# Altium schematic symbol library SpectrumAnalyer.SchLib: 17 symbols
Pins are listed as number, name and electrical type; pins without a type are passive.

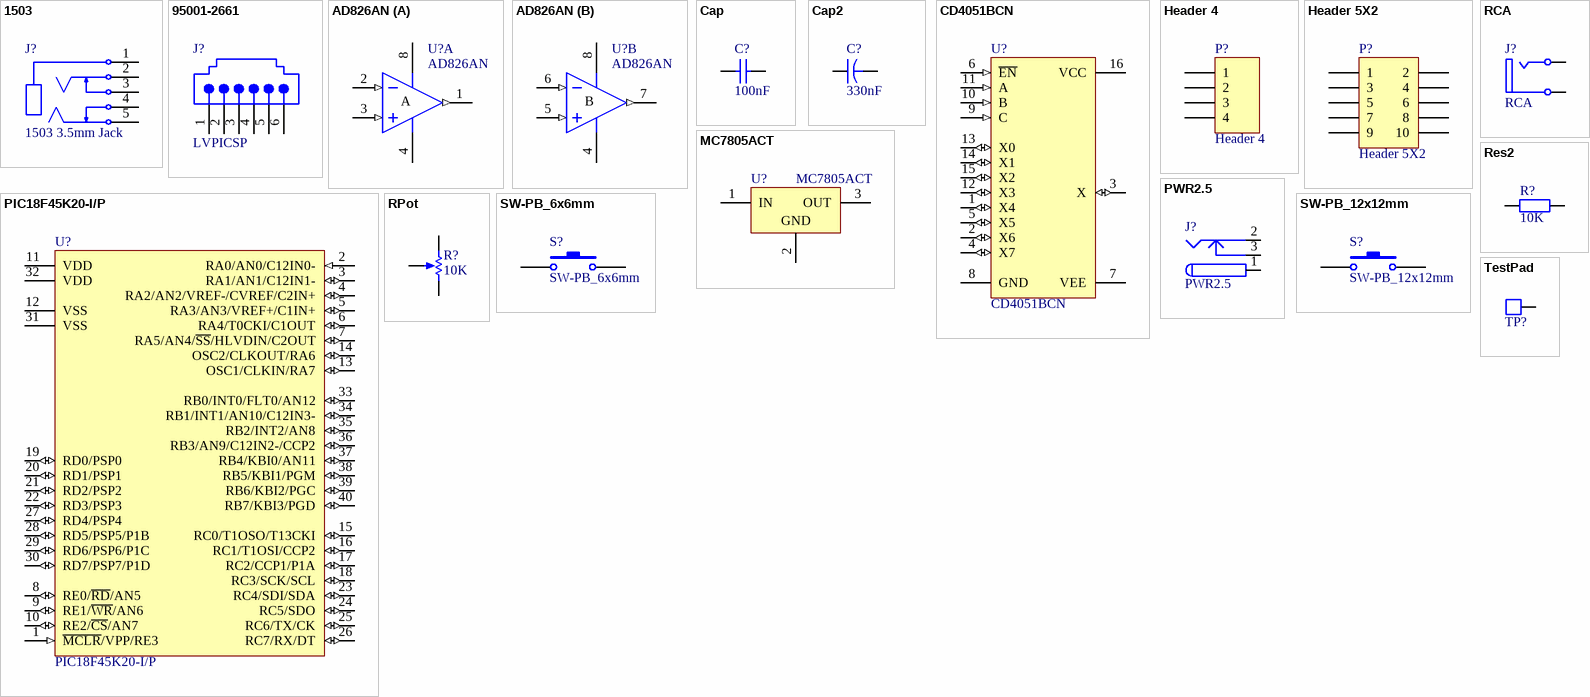
[diagram p0: symbols 1503 to TestPad]

## 1503
designator J?, comment 1503 3.5mm Jack
1503 09/17 Jack connector
footprint 1503 (1503 09/17 Jack)
pins: 1, 2, 3, 4, 5

## 95001-2661
designator J?, comment LVPICSP
Right Angle, Low Profile, Flangeless PCB Jack; Ports: 1; Positions/Loaded: Port1 - 6/6; PerformanceCategory: 3; PCB_Mounting: Thru-Hole; DrillSize: Nominal, Rounded to nearest 0.05mm; PCB_Layout: Complies with Manufacturer's Recommendation.; Published: 25-Jun-2002; DatasheetDocument: 17-Dec-2001; PackageDocument: 17-Dec-2001; PackageReference: 95001-2661; Publisher: Altium Limited; ComponentLink1Description: Manufacturer Link; ComponentLink1URL: http://www.molex.com/; ComponentLink2Description: Datasheet; ComponentLink2URL: http://www.molex.com/cmc_upload/common_files/1222003_mx95001b.pdf; ComponentLink3Description: Iges Model; ComponentLink3URL: http://www.molex.com/pdm_docs/igs/95001-2441_igs.zip
footprint 95001-2661 (Connector; PCB Jack, Thru-Hole; 1-Port, 6 Positions, 6 Loaded; Unshielded without Lightpipes; Right Angle)
signal-integrity model Modular Jack
pins: 1, 2, 3, 4, 5, 6

## AD826AN
designator U?
High-Speed, Low-Power Dual Operational Amplifier; Published: 8-Jun-2000; LatestRevisionDate: 04-Mar-2005; LatestRevisionNote: Stylized 3D Model Added.; DatasheetVersion: REV. A 1995; PackageVersion: revA; PackageReference: N-8; Publisher: Altium Limited; PackageDescription: DIP; 8 Leads; Row Spacing 7.62 mm; Pitch 2.54 mm; ComponentLink1Description: Manufacturer Link; ComponentLink1URL: http://www.analog.com/en/prod/0,,759_786_AD826%2C00.html; ComponentLink2Description: Datasheet; ComponentLink2URL: http://www.analog.com/UploadedFiles/Data_Sheets/432952987AD826_b.pdf
footprint N-8 (DIP; 8 Leads; Row Spacing 7.62 mm; Pitch 2.54 mm)
3D model Q-8 (DIP; 8 Leads; Row Spacing 7.62 mm; Pitch 2.54 mm)
simulation model AD826A (SUBCKT)
pins on every part: 4 V- (power), 8 V+ (power)
part A pins: 1 OUT (out), 2 IN- (in), 3 IN+ (in)
part B pins: 5 IN+ (in), 6 IN- (in), 7 OUT (out)
part A text: A
part B text: B

## Cap
designator C?  value 100nF  (hidden comment: Cap)
Capacitor; Published: 8-Jun-2000; LatestRevisionDate: 17-Jul-2002; LatestRevisionNote: Re-released for DXP Platform.; PackageReference: RAD-0.3; Publisher: Altium Limited; PackageDescription: Radial Cap, Thru-Hole; 2 Leads; 0.3 in Pin Spacing
footprint RAD-0.1 (Radial Cap, Thru-Hole; 2 Leads; 0.1 in Pin Spacing)
simulation model CAP (Capacitor)
signal-integrity model Cap
pins: 1, 2

## Cap2
designator C?  value 330nF  (hidden comment: Cap2)
Capacitor; Published: 23-Sep-2002; PackageReference: CAPR5-4X5; Publisher: Altium Limited; PackageDescription: Capacitor; 2 Leads
footprint CAPR5-4X5 (Capacitor; 2 Leads)
simulation model CAP (Capacitor)
signal-integrity model Cap
pins: 1, 2

## CD4051BCN
designator U?
8-Channel Analog Multiplexer/Demultiplexer; Published: 17-Jul-2002; LatestRevisionDate: 29-May-2009; LatestRevisionNote: Component Body Added.; DatasheetVersion: Jan-1999; PackageVersion: 2000; PackageReference: N16E; Publisher: Altium Limited; PackageDescription: DIP, 16-Pin, Row Spacing 7.62 mm, Pitch 2.54 mm; ComponentLink1Description: Manufacturer Link; ComponentLink1URL: http://www.fairchildsemi.com/; ComponentLink2Description: Datasheet; ComponentLink2URL: http://www.fairchildsemi.com/ds/CD%2FCD4052BC.pdf
footprint N16E (DIP, 16-Leads, Row Spacing 7.62mm, Pitch 2.54mm, Body 19.3x6.35mm)
3D model N16E (DIP, 16-Pin, Row Spacing 7.62 mm, Pitch 2.54 mm)
pins: 1 X4 (io), 2 X6 (io), 3 X (io), 4 X7 (io), 5 X5 (io), 6 ~{EN} (in), 7 VEE (power), 8 GND (power), 9 C (in), 10 B (in), 11 A (in), 12 X3 (io), 13 X0 (io), 14 X1 (io), 15 X2 (io), 16 VCC (power)

## Header 4
designator P?
Header, 4-Pin; LatestRevisionDate: 17-Jul-2002; LatestRevisionNote: Re-released for DXP Platform.; Publisher: Altium Limited
footprint HDR1X4 (Connector; Header; 4 Position)
signal-integrity model Connector
pins: 1, 2, 3, 4

## Header 5X2
designator P?
Header, 5-Pin, Dual row; LatestRevisionDate: 17-Jul-2002; LatestRevisionNote: Re-released for DXP Platform.; Publisher: Altium Limited
footprint HDR2X5 (Connector; Header; 5x2 Position)
signal-integrity model Connector
pins: 1, 2, 3, 4, 5, 6, 7, 8, 9, 10

## MC7805ACT
designator U?
3-Terminal Positive Fixed Voltage Regulator; Note: Pin 2 is electrically connected to TAB; Published: 17-Jul-2002; DatasheetVersion: 1988; PackageReference: 221A-04; Publisher: Altium Limited; PackageDescription: TO, Thru-Hole, Vertical, Heatsink Mounted; 3 In-Line Leads; Pitch 2.54 mm; Code_JEDEC: TO-262-AA; ComponentLink1Description: Manufacturer Link; ComponentLink1URL: http://www.onsemi.com/site/products/taxonomy/0,4438,503,00.html; ComponentLink2Description: Datasheet; ComponentLink2URL: http://www.onsemi.com/pub/Collateral/MC7800-D.PDF
footprint 221A-04 (TO, Thru-Hole, Vertical, Heatsink Mounted; 3 In-Line Leads; Pitch 2.54 mm)
pins: 1 IN (power), 2 GND (power), 3 OUT (power)

## PIC18F45K20-I/P
designator U?
Flash Microcontroller with 10-Bit A/D and nanoWatt Technology, 32K Flash, 40-Pin PDIP, Industrial Temperature Range; Published: 29-Jan-2009; LatestRevisionDate: 02-Dec-2009; LatestRevisionNote: Updated to datasheet revision F, Sep-2009; DatasheetVersion: revF, Sep-2009; PackageVersion: revBB, Aug-2009; PackageReference: PDIP600-P40; Publisher: Altium Limited; PackageDescription: 40-Lead Plastic Dual In-Line (P) - 600 mil Body [PDIP]; Supplier 1: Digi-Key; Supplier Part Number 1: PIC18F45K20-I/P-ND; Supplier 2: Farnell; Supplier Part Number 2: 1439588; ComponentLink1Description: Datasheet; ComponentLink1URL: http://ww1.microchip.com/downloads/en/DeviceDoc/41303F.pdf; ComponentLink2Description: Packaging Specification; ComponentLink2URL: http://www.microchip.com/stellent/groups/techpub_sg/documents/packagingspec/en012702.pdf; ComponentLink3Description: Microchip.com Home; ComponentLink3URL: http://www.microchip.com/
footprint PDIP600-P40 (DIP, 40-Leads, Row Spacing 15.24mm, Pitch 2.54mm, Body 51.8x13.5mm)
pins: 1 ~{MCLR}/VPP/RE3 (in), 2 RA0/AN0/C12IN0- (in), 3 RA1/AN1/C12IN1- (io), 4 RA2/AN2/VREF-/CVREF/C2IN+ (io), 5 RA3/AN3/VREF+/C1IN+ (io), 6 RA4/T0CKI/C1OUT (io), 7 RA5/AN4/~{SS}/HLVDIN/C2OUT (io), 8 RE0/~{RD}/AN5 (io), 9 RE1/~{WR}/AN6 (io), 10 RE2/~{CS}/AN7 (io), 11 VDD (power), 12 VSS (power), 13 OSC1/CLKIN/RA7 (io), 14 OSC2/CLKOUT/RA6 (io), 15 RC0/T1OSO/T13CKI (io), 16 RC1/T1OSI/CCP2 (io), 17 RC2/CCP1/P1A (io), 18 RC3/SCK/SCL (io), 19 RD0/PSP0 (io), 20 RD1/PSP1 (io), 21 RD2/PSP2 (io), 22 RD3/PSP3 (io), 23 RC4/SDI/SDA (io), 24 RC5/SDO (io), 25 RC6/TX/CK (io), 26 RC7/RX/DT (io), 27 RD4/PSP4 (io), 28 RD5/PSP5/P1B (io), 29 RD6/PSP6/P1C (io), 30 RD7/PSP7/P1D (io), 31 VSS (power), 32 VDD (power), 33 RB0/INT0/FLT0/AN12 (io), 34 RB1/INT1/AN10/C12IN3- (io), 35 RB2/INT2/AN8 (io), 36 RB3/AN9/C12IN2-/CCP2 (io), 37 RB4/KBI0/AN11 (io), 38 RB5/KBI1/PGM (io), 39 RB6/KBI2/PGC (io), 40 RB7/KBI3/PGD (io)

## PWR2.5
designator J?
Low Voltage Power Supply Connector; Published: 17-Dec-2003; DatasheetDocument: 09-May-2002; Publisher: Altium Limited; ComponentLink1Description: Manufacturer Link; ComponentLink1URL: http://domino.kycon.com/internet/Products.html
footprint KLD-0202 (DC Power Jack, 2.5mm, KLD Series, PCB Mount)
signal-integrity model Connector
pins: 1 (power), 1A (power), 1B (power), 2 (power), 2A (power), 2B (power), 3 (power), 3A (power), 3B (power)

## RCA
designator J?
RCA Phono Jack, Right Angle, Thru-Hole, Snap-In; PCB_Layout: Complies with manufacturer's recommendation.; DrillAndSlotSize: Corresponds to nominal value.; Published: 15-Jul-2004; LatestRevisionDate: 15-Jul-2004; LatestRevisionNote: Component Replaced.; DatasheetDocument: 7-Jul-2000; PackageDocument: 7-Jul-2000; PackageReference: 161; Publisher: Altium Limited; ComponentLink1Description: Manufacturer Link; ComponentLink1URL: http://www.mouser.com/kobiconn/
footprint RC-5231 (JEITA RC-5231 RCA connector)
signal-integrity model RCA
pins: 1A Ground (power) "Outer Shield (Sleeve)", 2B Signal "Center Pin (Plug Tip)"

## Res2
designator R?  value 10K  (hidden comment: Res2)
Resistor; Published: 8-Jun-2000; LatestRevisionDate: 17-Jul-2002; LatestRevisionNote: Re-released for DXP Platform.; PackageReference: AXIAL-0.4; Publisher: Altium Limited; PackageDescription: Axial Device, Thru-Hole; 2 Leads; 0.4 in Pin Spacing
footprint AXIAL-0.4 (Axial Device, Thru-Hole; 2 Leads; 0.4 in Pin Spacing)
simulation model RESISTOR (Resistor)
signal-integrity model Res
pins: 1, 2

## RPot
designator R?  value 10K  (hidden comment: RPot)
Potentiometer; Sim Note: Enter the Resistance value and the set point into parameter fields.; Set Position: 0.5; Published: 8-Jun-2000; LatestRevisionDate: 17-Jul-2002; LatestRevisionNote: Re-released for DXP Platform.; PackageReference: VR5; Publisher: Altium Limited; PackageDescription: Variable Resistor, Thru-Hole; 3 Leads
footprint VR4 (Thru-Hole; 3 Leads)
simulation model POT (Potentiometer)
pins: 1 TOP, 2 BOT, 3 TAP
1 alternate drawing of the same symbol

## SW-PB_6x6mm
designator S?
Switch; Published: 24-Mar-1999; LatestRevisionDate: 17-Jul-2002; LatestRevisionNote: Re-released for DXP Platform.; PackageReference: SPST-2; Publisher: Altium Limited; PackageDescription: Switch; 2 Leads
footprint PUSHBTN_6x6mm (6x6mm Square Push Button)
pins: 1, 2

## SW-PB_12x12mm
designator S?
Switch; Published: 24-Mar-1999; LatestRevisionDate: 17-Jul-2002; LatestRevisionNote: Re-released for DXP Platform.; PackageReference: SPST-2; Publisher: Altium Limited; PackageDescription: Switch; 2 Leads
footprint PUSHBTN_12x12mm (12x12mm Square push button)
pins: 1, 2

## TestPad
designator TP?, comment Test Pad  (value not drawn)
footprint PIN1 (Generic Antenna; 1 Lead)
pins: 1